# Altium schematic symbol library mega_last.SCHLIB: 25 symbols
Pins are listed as number, name and electrical type; pins without a type are passive.

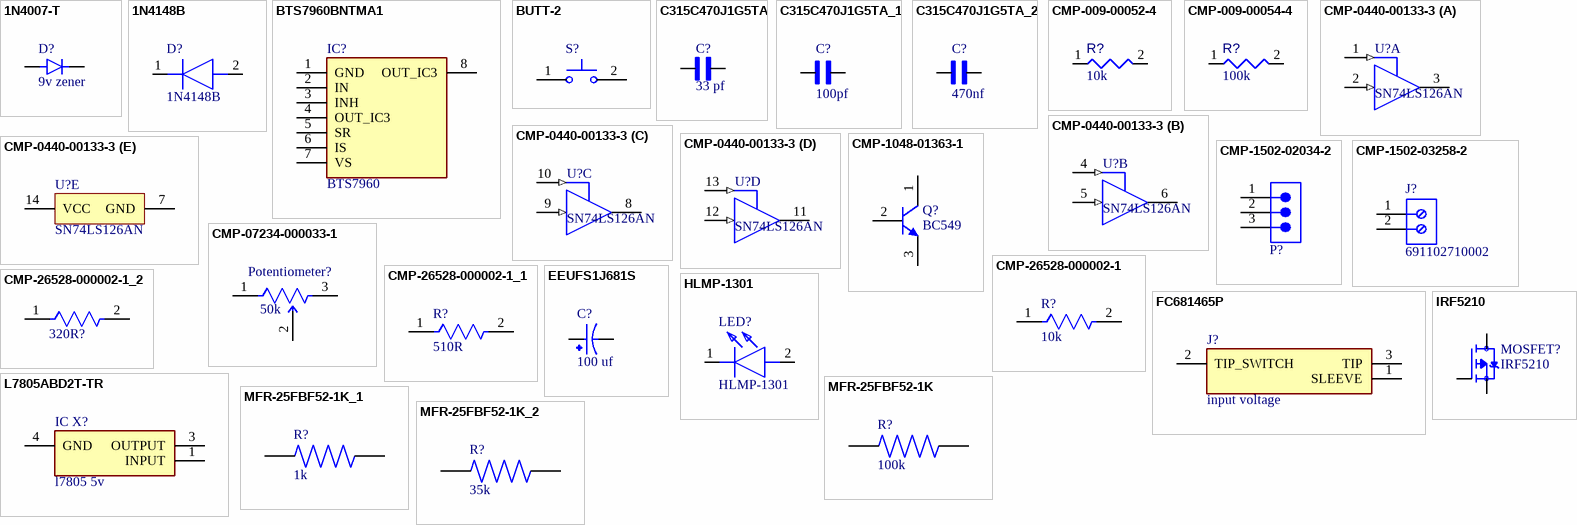
[diagram p0: symbols 1N4007-T to MFR-25FBF52-1K_2]

## 1N4007-T
designator D?, comment 9v zener
Diode Standard 1A 1000V 1Vf DO41 | Diodes Inc 1N4007-T; MF: Diodes Incorporated; SnapEDA_Link: https://www.snapeda.com/parts/1N4007-T/Diodes+Inc./view-part/?ref=snap; Package: DO-41 Diodes Inc.; Value: *; MP: 1N4007-T; Check_prices: https://www.snapeda.com/parts/1N4007-T/Diodes+Inc./view-part/?ref=eda
footprint DIOAD780W78L463D236
pins: A, K

## 1N4148B
designator D?
Diode; Manufacturer_Name: Vishay; Datasheet Link: https://www.vishay.com/docs/81857/1n4148.pdf; Manufacturer_Part_Number: 1N4148B
footprint DIOAD990W55L340D162
pins: 1 K, 2 A

## BTS7960BNTMA1
designator IC?, comment BTS7960
Integrated Circuit; Manufacturer_Name: Infineon; Manufacturer_Part_Number: BTS7960BNTMA1; Datasheet Link: https://www.mouser.co.uk/ProductDetail/Infineon-Technologies/BTS7960BNTMA1?qs=3%2FhYFTG7CVfEx3XLwpC3gw==; Height: 4.4mm; Mouser Part Number: N/A; Mouser Price/Stock: https://www.mouser.co.uk/ProductDetail/Infineon-Technologies/BTS7960BNTMA1?qs=3%2FhYFTG7CVfEx3XLwpC3gw%3D%3D
footprint BTS7960BNTMA1
footprint BTS7960B
pins: 1 GND, 2 IN, 3 INH, 4 OUT_IC3, 5 SR, 6 IS, 7 VS, 8 OUT_IC3

## BUTT-2
designator S?  (value not drawn)
Tactile Switches MINI PUSH BUTTON SWITCH 2-PIN QTY. 4; MF: Gravitech; Purchase-URL: https://pricing.snapeda.com/search/part/BUTT-2/?ref=eda; Package: None; Value: *; Check_prices: https://www.snapeda.com/parts/BUTT-2/Gravitech/view-part/?ref=eda; SnapEDA_Link: https://www.snapeda.com/parts/BUTT-2/Gravitech/view-part/?ref=snap; Availability: In Stock; Price: None; MP: BUTT-2
footprint SW_BUTT-2
pins: 1, 2

## C315C470J1G5TA
designator C?, comment 33 pf
Capacitor: ceramic; MLCC, monolithic; 47pF; 100V; C0G; Â±5%; THT; MF: KEMET; MP: C315C470J1G5TA; SnapEDA_Link: https://www.snapeda.com/parts/C315C470J1G5TA/KEMET/view-part/?ref=snap; Package: Radial Kemet; Value: *; Check_prices: https://www.snapeda.com/parts/C315C470J1G5TA/KEMET/view-part/?ref=eda
footprint CAPRR254W54L381T254H466
pins: 1, 2

## C315C470J1G5TA_1
designator C?, comment 100pf
Capacitor: ceramic; MLCC, monolithic; 47pF; 100V; C0G; Â±5%; THT; MF: KEMET; MP: C315C470J1G5TA; SnapEDA_Link: https://www.snapeda.com/parts/C315C470J1G5TA/KEMET/view-part/?ref=snap; Package: Radial Kemet; Value: *; Check_prices: https://www.snapeda.com/parts/C315C470J1G5TA/KEMET/view-part/?ref=eda
footprint CAPRR254W54L381T254H466
pins: 1, 2

## C315C470J1G5TA_2
designator C?, comment 470nf
Capacitor: ceramic; MLCC, monolithic; 47pF; 100V; C0G; Â±5%; THT; MF: KEMET; MP: C315C470J1G5TA; SnapEDA_Link: https://www.snapeda.com/parts/C315C470J1G5TA/KEMET/view-part/?ref=snap; Package: Radial Kemet; Value: *; Check_prices: https://www.snapeda.com/parts/C315C470J1G5TA/KEMET/view-part/?ref=eda
footprint CAPRR254W54L381T254H466
pins: 1, 2

## CMP-009-00052-4
designator R?, comment value 10k  (hidden comment: MFR-25FBF52-22K1)
Axial Resistor, 22.1 KOhm, +/- 1%, 0.25 W, -55 to 155 degC, 2-Pin THD, RoHS, Bulk; Manufacturer: Yageo; Power: 250mW; Voltage Rating: 250V; Packaging: Bulk; Max Operating Temperature: 155°C; Case/Package: Axial; Tolerance: 1%; Mounting Technology: TH; Min Operating Temperature: -55°C; RoHS Compliant: True; Package Quantity: 200; Package Reference: MFR-25; Manufacturer URL: http://www.yageo.com/; Package Description: 2-Pin Axial Lead, Dia 2.4 mm, Body Length 6.3 mm; Datasheet Version: Apr-13; Datasheet URL: http://www.yageo.com/documents/recent/Yageo%20LR_MFR_2013.pdf; Manufacturer Part Number: MFR-25FBF52-22K1; Component Type: Resistors
footprint RESA60-630X240 (Axial Resistor, 2-Leads, Dia 2.4mm, Body Length 6.3mm)
pins: 1, 2
1 alternate drawing of the same symbol

## CMP-009-00054-4
designator R?, comment value 100k  (hidden comment: MFR-25FBF52-2K21)
Axial Resistor, 2.21 KOhm, +/- 1%, 0.25 W, -55 to 155 degC, 2-Pin THD, RoHS, Bulk; Manufacturer: Yageo; Voltage Rating: 250V; Power: 250mW; Tolerance: 1%; Package Reference: MFR-25; Packaging: Bulk; Datasheet Version: Apr-13; Manufacturer URL: http://www.yageo.com/; Package Description: 2-Pin Axial Lead, Dia 2.4 mm, Body Length 6.3 mm; Mounting Technology: TH; RoHS Compliant: True; Package Quantity: 200; Min Operating Temperature: -55°C; Case/Package: Axial; Max Operating Temperature: 155°C; Datasheet URL: http://www.yageo.com/documents/recent/Yageo%20LR_MFR_2013.pdf; Manufacturer Part Number: MFR-25FBF52-2K21; Component Type: Resistors
footprint RESA60-630X240 (Axial Resistor, 2-Leads, Dia 2.4mm, Body Length 6.3mm)
pins: 1, 2
1 alternate drawing of the same symbol

## CMP-0440-00133-3
designator U?, comment SN74LS126AN
Quadruple Bus Buffer 3-State Outputs; Manufacturer: Texas Instruments; Rating: Catalog; VCC(Max)(V): 5.25; VCC(Min)(V): 4.75; ICC @ Nom Voltage(Max)(mA): 0.062; Bits(#): 4; Input Type: TTL; tpd @ Nom Voltage(Max)(ns): 18; F @ Nom Voltage(Max)(Mhz): 35; Voltage(Nom)(V): 5; Generic Part Number: SN74LS126A; DatasheetVersion: SDLS044A; Output Type: TTL; PackageVersion: http://www.ti.com/lit/ml/mpdi002c/mpdi002c.pdf; Operating Temperature Range(C): 0 to 70; PackageReference: N0014A; Code_JEDEC: MS-001
footprint 3-stateBuffer (DIP, 14-Leads, Body 19.7x6.6mm, Pitch 2.54mm)
part A pins: 1 1G (in), 2 1A (in), 3 1Y (hiz)
part B pins: 4 2G (in), 5 2A (in), 6 2Y (hiz)
part C pins: 8 3Y (hiz), 9 3A (in), 10 3G (in)
part D pins: 11 4Y (hiz), 12 4A (in), 13 4G (in)
part E pins: 7 GND (power), 14 VCC (power)

## CMP-1048-01363-1
designator Q?, comment BC549
Low Noise Transistor, NPN Silicon, 3-Pin TO-92, Pb-Free, Bulk Box; Manufacturer: On Semiconductor; PartNumber: BC549CG; IC Continuous (A): 0.1; RoHS: TRUE; Mounting Technology: Through Hole; ComponentLink3URL: http://www.onsemi.com/pub_link/Collateral/BC549B-D.PDF; PackageDescription: 3-Pin Transistor Outline, Body 4.825 x 3.685 mm, Pitch 1.27 mm; DatasheetVersion: Rev. AD; ComponentLink3Description: Package Specification; ComponentLink1URL: http://www.onsemi.com/; PackageVersion: Rev. AD; Polarity: NPN; ComponentLink2Description: Datasheet; ComponentLink1Description: Manufacturer URL; Packing: Bulk Box; ComponentLink2URL: http://www.onsemi.com/pub_link/Collateral/BC549B-D.PDF; PackageReference: TO-92-3-29-04_AD; Manufacturer: ON Semiconductor; Manufacturer Part Number: BC549CG
footprint ONSC-TO-92-3-29-04_AD (TO, 3-Leads, Body Dia 4.7mm, Pitch 1.27mm)
pins: 1 C, 2 B, 3 E

## CMP-1502-02034-2
designator P?, comment 691311700103  (value not drawn)
NexarPartId: 18818311; Manufacturer: Wurth Electronics; Number of Contacts: 3; Connector Type: PCB, Terminal Block; Pitch: 5.0038mm; Current: 20A; Gender: Male; Number of Levels: 1; Voltage: 300V; RoHS: Compliant; Number of Rows: 1; Color: Green; Length: 8.5mm; Number of Positions Per Level: 3; Termination: Solder; Mount: Through Hole; Contact Material: Brass; Lead Pitch: 5mm; Width: 17mm; Number of Pins: 3; Height: 12mm; REACH SVHC: Unknown; Orientation: Vertical; Packaging: Box; Contact Gender: Male; Manufacturer Part Number: 691311700103
footprint 691311700103 (Serie 3117 - 5.00mm Close Vertical PCB Header WR-TBL, 3 pin)
pins: 1, 2, 3

## CMP-1502-03258-2
designator J?, comment 691102710002
NexarPartId: 8917706; Manufacturer: Wurth Electronics; Number of Levels: 1; Number of Positions Per Level: 2; Current: 15A; Voltage: 300V; Pitch: 5.0038mm; Plating: Steel; Stripping Length: -6mm; Wire Gauge (Min): 14AWG; Wire Gauge (Max): 22AWG; Length: 7.5mm; Contact Material: Brass; Contact Plating: Tin; Packaging: Box; Number of Pins: 2; Voltage Rating: 300V; Termination: Screw; Number of Contacts: 2; Color: Blue; Current Rating: 15A; Mount: Through Hole; Max Operating Temperature: 105°C; Min Operating Temperature: -40°C; REACH SVHC: Unknown; Height: 13.4mm; Width: 11.2mm; Housing Material: Nylon; RoHS: Compliant; Wire/Cable Gauge: 22AWG; Lead Pitch: 5mm; Manufacturer Part Number: 691102710002
footprint 691102710002 (Conn Terminal Block 2 POS 5mm Solder ST Thru-Hole 15A Box)
pins: 1, 2

## CMP-07234-000033-1
designator Potentiometer?, comment 50k
TRIMMER 200K OHM 0.5W PC PIN TOP; Manufacturer: Bourns; Manufacturer Part Number: 3362U-1-204LF; Max Power Dissipation: 500mW; Temperature Coefficient: 100ppm/°C; Tolerance: 10%; Voltage Rating (DC): 300V; Resistance: 200kR; Package Quantity: 50; Length: 6.6mm; Lead Free: Lead Free; Technology: CERMET; RoHS Compliant: Yes; Max Operating Temperature: 125°C; Military Standard: Not; Packaging: Rail/Tube; Depth: 6.99mm; Mount: Through Hole; Termination: Pin; Color: Blue; Width: 0.26inch; Height: 0.185inch; Taper: Linear; Min Operating Temperature: -55°C; Weight: 0.02oz; Power Rating: 500mW; Series: Trimpot® 3362 - Sealed; Contact Plating: Tin; Resistor Type: Cermet
footprint FP-3362U-MFG
pins: 1 CCW, 2 WIPER, 3 CW

## CMP-26528-000002-1
designator R?, comment 10k
RES 10K OHM 1/8W 5% CF AXIAL; Manufacturer Part Number: CF18JT10K0; Manufacturer: Stackpole Electronics; Power Rating: 0.125W; Temperature Coefficient: 0-500ppm/°C; Resistance: 10kΩ; Voltage Rating: 250V; Value: 10kΩ; Temperature: -55°C to +155°C; Height: 2mm; Lead Free: Yes; Automotive: No; Device Class L2: Resistors; Package: CF18; Series: CF; ComponentLink2Description: Datasheet; Ipc Land Pattern Name: RESAD656W65L360D200; Temperature Range High: +155°C; RoHS: TRUE; Device Class L3: Through-Hole Resistors; Temperature Range Low: -55°C; Device Class L1: Passive Components; Category: Res; Octopart: https://octopart.com/cf18jt10k0-stackpole+electronics-19205642; Composition: Carbon Film; Digikey Description: RES 10K OHM 1/8W 5% CF AXIAL; ComponentLink2URL: http://www.seielect.com/Catalog/SEI-CF_CFM.pdf; Tolerance: 5%
footprint 10k resistor
pins: 1, 2

## CMP-26528-000002-1_1
designator R?, comment 510R
RES 10K OHM 1/8W 5% CF AXIAL; Manufacturer Part Number: CF18JT10K0; Manufacturer: Stackpole Electronics; Power Rating: 0.125W; Temperature Coefficient: 0-500ppm/°C; Resistance: 10kΩ; Voltage Rating: 250V; Value: 10kΩ; Temperature: -55°C to +155°C; Height: 2mm; Lead Free: Yes; Automotive: No; Device Class L2: Resistors; Package: CF18; Series: CF; ComponentLink2Description: Datasheet; Ipc Land Pattern Name: RESAD656W65L360D200; Temperature Range High: +155°C; RoHS: TRUE; Device Class L3: Through-Hole Resistors; Temperature Range Low: -55°C; Device Class L1: Passive Components; Category: Res; Octopart: https://octopart.com/cf18jt10k0-stackpole+electronics-19205642; Composition: Carbon Film; Digikey Description: RES 10K OHM 1/8W 5% CF AXIAL; ComponentLink2URL: http://www.seielect.com/Catalog/SEI-CF_CFM.pdf; Tolerance: 5%
footprint 10k resistor
pins: 1, 2

## CMP-26528-000002-1_2
designator 320R?, comment CF18JT10K0  (value not drawn)
RES 10K OHM 1/8W 5% CF AXIAL; Manufacturer: Stackpole Electronics; Power Rating: 0.125W; Temperature Coefficient: 0-500ppm/°C; Resistance: 10kΩ; Voltage Rating: 250V; Value: 10kΩ; Temperature: -55°C to +155°C; Height: 2mm; Lead Free: Yes; Automotive: No; Device Class L2: Resistors; Package: CF18; Series: CF; ComponentLink2Description: Datasheet; Ipc Land Pattern Name: RESAD656W65L360D200; Manufacturer Part Number: CF18JT10K0; Temperature Range High: +155°C; RoHS: TRUE; Device Class L3: Through-Hole Resistors; Temperature Range Low: -55°C; Device Class L1: Passive Components; Category: Res; Octopart: https://octopart.com/cf18jt10k0-stackpole+electronics-19205642; Composition: Carbon Film; Digikey Description: RES 10K OHM 1/8W 5% CF AXIAL; ComponentLink2URL: http://www.seielect.com/Catalog/SEI-CF_CFM.pdf; Tolerance: 5%
footprint 10k resistor
pins: 1, 2

## EEUFS1J681S
designator C?, comment 100 uf
CAP ALUM 680UF 20% 63V THRU HOLE; MP: EEU-FS1J681S; MF: Panasonic Electronic Components; Package: RADIAL-2 Panasonic; Availability: In Stock; SnapEDA_Link: https://www.snapeda.com/parts/EEU-FS1J681S/Panasonic/view-part/5562022/?ref=snap; Price: None; Check_prices: https://www.snapeda.com/parts/EEU-FS1J681S/Panasonic/view-part/5562022/?ref=eda; Value: *
footprint CAPPRD750W80D1600H2000
pins: N, P

## FC681465P
designator J?, comment input voltage
Connector; Manufacturer_Name: CLIFF ELECTRONIC COMPONENTS; Manufacturer_Part_Number: FC681465P; Datasheet Link: http://www.farnell.com/datasheets/2286781.pdf; Height: 11mm
footprint FC681465P
pins: 1 SLEEVE, 2 TIP_SWITCH, 3 TIP

## HLMP-1301
designator LED?
LED; Manufacturer_Name: Avago Technologies; Datasheet Link: https://componentsearchengine.com/Datasheets/2/HLMP-1301.pdf; Height: 6.35mm; Manufacturer_Part_Number: HLMP-1301; Mouser Part Number: 630-HLMP-1301; Mouser Price/Stock: https://www.mouser.co.uk/ProductDetail/Broadcom-Avago/HLMP-1301?qs=jT9z6tsiFNkJAuA0Y2YdzA%3D%3D; Arrow Part Number: HLMP-1301; Arrow Price/Stock: https://www.arrow.com/en/products/hlmp-1301/broadcom-limited
footprint HLMP1301
pins: 1 K, 2 A

## IRF5210
designator MOSFET?
P-Channel 100V 38A _Tc_ 3.1W _Ta_, 170W _Tc_ Surface Mount D2PAK; MF: Infineon Technologies; SnapEDA_Link: https://www.snapeda.com/parts/IRF5210/Infineon%20Technologies/view-part/2777330/?ref=snap; Price: None; MP: IRF5210; Value: *; Availability: Unavailable; Package: TO-220 Infineon Technologies
footprint TO254P1054X469X2933-3
pins: 1 G, 2 D, 3 S

## L7805ABD2T-TR
designator IC X?, comment l7805 5v
Integrated Circuit; Manufacturer_Name: STMicroelectronics; Manufacturer_Part_Number: L7805ABD2T-TR; Datasheet Link: https://www.st.com/resource/en/datasheet/l78.pdf; Mouser Part Number: 511-L7805ABD2T-TR; Mouser Price/Stock: https://www.mouser.co.uk/ProductDetail/STMicroelectronics/L7805ABD2T-TR?qs=LL%252BsqOK9SqOQ%2FfZD5ZsNqA%3D%3D; Arrow Part Number: L7805ABD2T-TR; Arrow Price/Stock: https://www.arrow.com/en/products/l7805abd2t-tr/stmicroelectronics?region=nac
footprint D2PAK-STB35NF10T4
pins: 1 INPUT, 3 OUTPUT, 4 GND

## MFR-25FBF52-1K
designator R?, comment 100k
1.07 kOhms Â±1% 0.25W, 1/4W Through Hole Resistor Axial - Metal Film; MF: Yageo; MP: MFR-25FBF52-1K; Value: *; SnapEDA_Link: https://www.snapeda.com/parts/MFR-25FBF52-1K/Yageo/view-part/?ref=snap; Purchase-URL: https://pricing.snapeda.com/search/part/MFR-25FBF52-1K/?ref=eda; Availability: In Stock; Price: None; Package: Axial Yageo; Check_prices: https://www.snapeda.com/parts/MFR-25FBF52-1K/Yageo/view-part/?ref=eda
footprint RESAD1100W55L680D260
pins: 1, 2

## MFR-25FBF52-1K_1
designator R?, comment 1k
1.07 kOhms Â±1% 0.25W, 1/4W Through Hole Resistor Axial - Metal Film; MF: Yageo; MP: MFR-25FBF52-1K; Value: *; SnapEDA_Link: https://www.snapeda.com/parts/MFR-25FBF52-1K/Yageo/view-part/?ref=snap; Purchase-URL: https://pricing.snapeda.com/search/part/MFR-25FBF52-1K/?ref=eda; Availability: In Stock; Price: None; Package: Axial Yageo; Check_prices: https://www.snapeda.com/parts/MFR-25FBF52-1K/Yageo/view-part/?ref=eda
footprint RESAD1100W55L680D260
pins: 1, 2

## MFR-25FBF52-1K_2
designator R?, comment 35k
1.07 kOhms Â±1% 0.25W, 1/4W Through Hole Resistor Axial - Metal Film; MF: Yageo; MP: MFR-25FBF52-1K; Value: *; SnapEDA_Link: https://www.snapeda.com/parts/MFR-25FBF52-1K/Yageo/view-part/?ref=snap; Purchase-URL: https://pricing.snapeda.com/search/part/MFR-25FBF52-1K/?ref=eda; Availability: In Stock; Price: None; Package: Axial Yageo; Check_prices: https://www.snapeda.com/parts/MFR-25FBF52-1K/Yageo/view-part/?ref=eda
footprint RESAD1100W55L680D260
pins: 1, 2